# EAGLE library part 620108131822 (library Wuerth_Elektronik_eiCan_Wire_to_Board_Connectors)
WR-WTB 2.00mm SMT Male Horizontal Shrouded Header, 8 Pins=>Code : Con_WTB_2.00_PCB_SMT_620108131822 <http://katalog.we-online.de/media/thumbs2/eican/thb_Con_WTB_2.00_PCB_SMT_6201xx131822_pf2.jpg> Details see: http://katalog.we-online.de/en/em/620_1xx_131_822 Created 2014-06-05, Karrer Zheng 2014 (C) Würth Elektronik
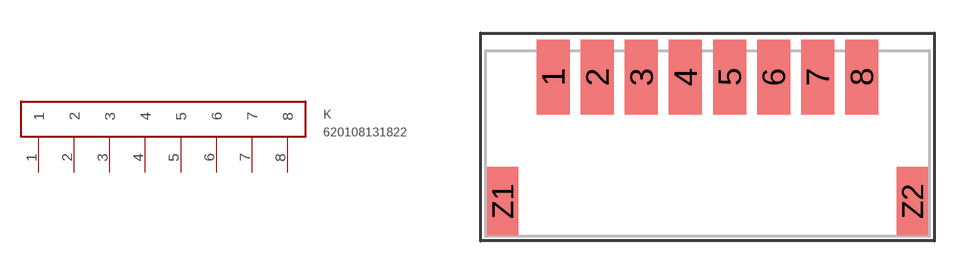
[diagram p42: symbol with the pads of 620108131822; footprint 620108131822]

Designator prefix K

## 620108131822  [620108131822]
1  1
2  2
3  3
4  4
5  5
6  6
7  7
8  8

## Footprint 620108131822 (pad centres in mm)
WR-WTB 2.00mm SMT Male Horizontal Shrouded Header, 8 Pins
smd 1.5 x 3.4: 1 -1,0; 2 1,0; 3 3,0; 4 5,0; 5 7,0; 6 9,0; 7 11,0; 8 13,0
smd 1.4 x 3.1: Z1 -3.3,-5.65; Z2 15.3,-5.65